# Altium footprint library 电容.PcbLib: 174 footprints (part 8 of 11)
Each footprint in its own frame and in the unit in brackets; x right, y up, seen from the top. Pads: shape width x height; smd on the part's side, far side on the other; paste and mask are expansions set on the pad; w line width, h text height; cw(c..) or ccw(c..) is an arc to the next point about the centre after c.
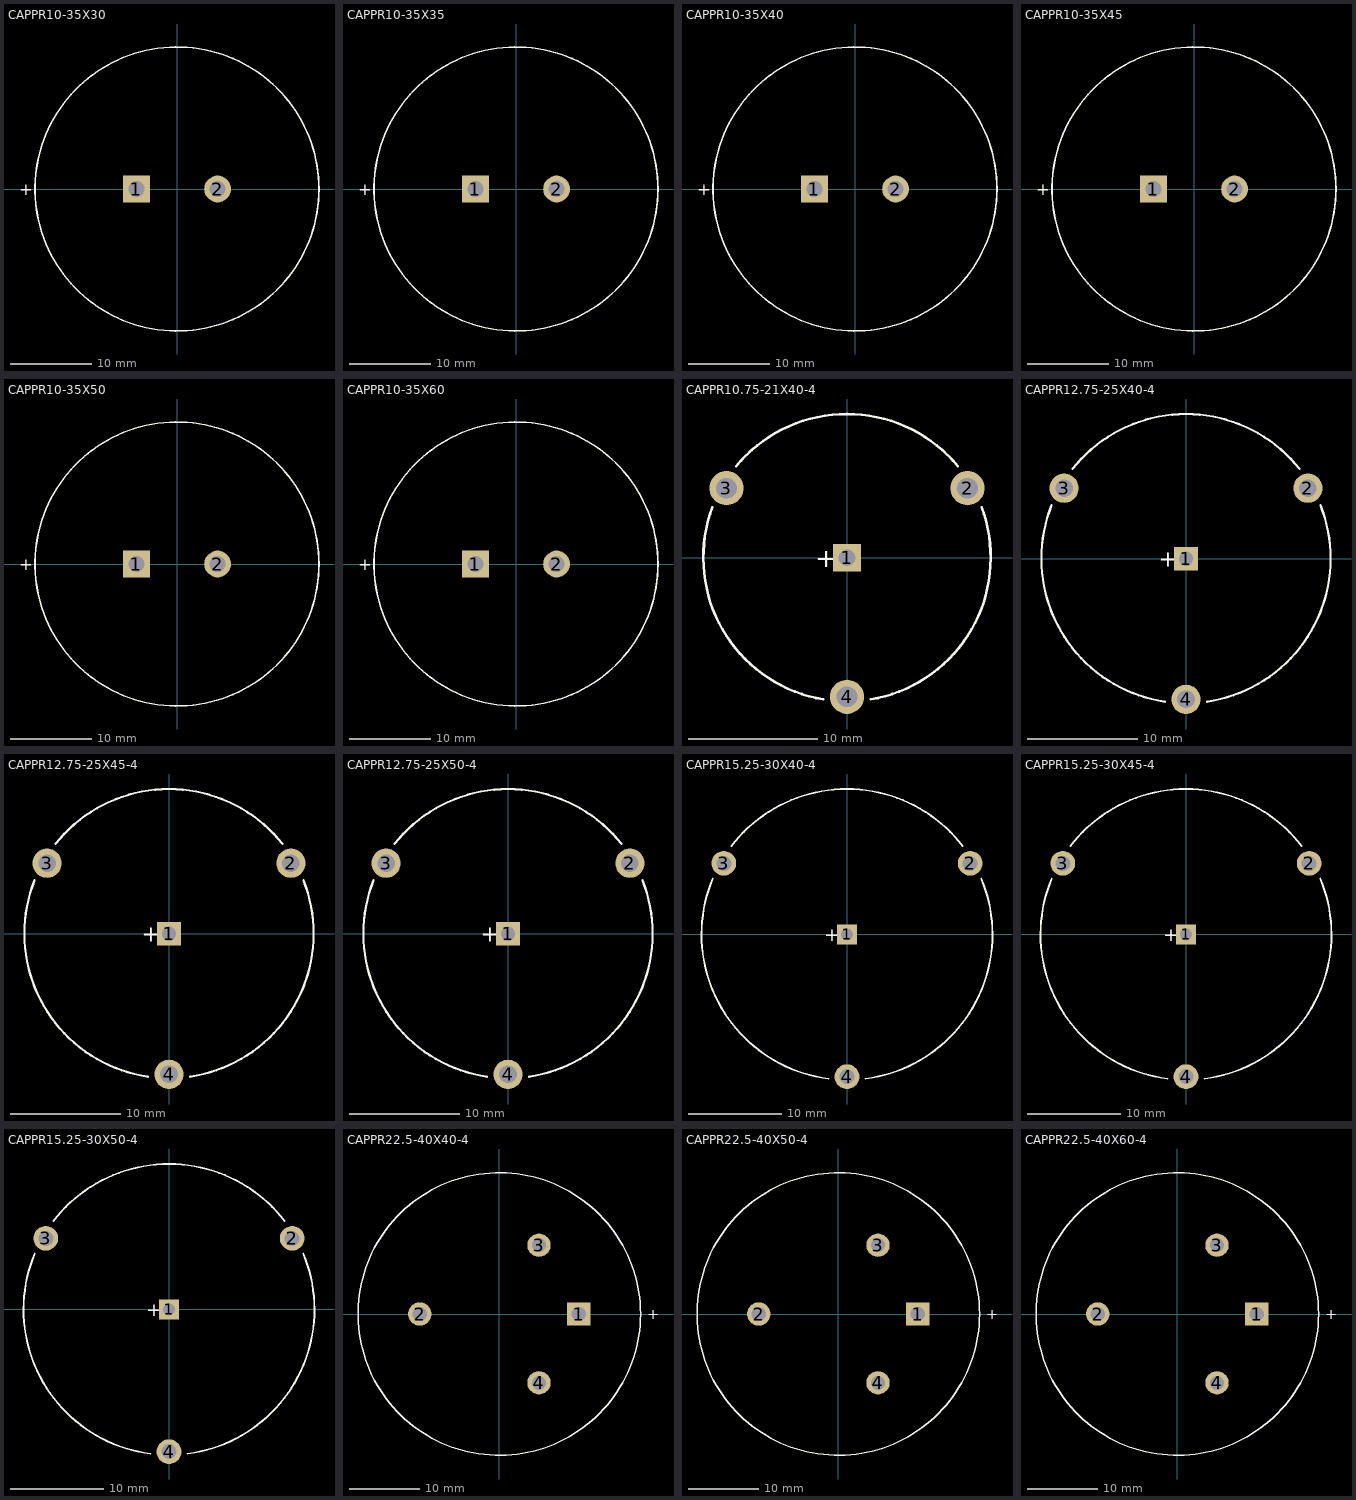
[diagram p7: the footprints below, top view; thin cyan lines are the x and y axes]

## CAPPR10-35X30 [mm]
pads (2):
  rect 3.3x3.3 hole 2: 1(-5,0)
  round 3.3 hole 2: 2(5,0)
Top Overlay:
  circle w0.2: c0,0 r17.5
  text "+" at -19.475,-0.75 h1.5
3D body: height 30, standoff 0.5, extent -17.499,-17.499 17.499,17.499

## CAPPR10-35X35 [mm]
pads (2):
  rect 3.3x3.3 hole 2: 1(-5,0)
  round 3.3 hole 2: 2(5,0)
Top Overlay:
  circle w0.2: c0,0 r17.5
  text "+" at -19.475,-0.75 h1.5
3D body: height 35, standoff 0.5, extent -17.499,-17.499 17.499,17.499

## CAPPR10-35X40 [mm]
pads (2):
  rect 3.3x3.3 hole 2: 1(-5,0)
  round 3.3 hole 2: 2(5,0)
Top Overlay:
  circle w0.2: c0,0 r17.5
  text "+" at -19.475,-0.75 h1.5

## CAPPR10-35X45 [mm]
pads (2):
  rect 3.3x3.3 hole 2: 1(-5,0)
  round 3.3 hole 2: 2(5,0)
Top Overlay:
  circle w0.2: c0,0 r17.5
  text "+" at -19.475,-0.75 h1.5
3D body: height 45, standoff 0.5, extent -17.499,-17.499 17.499,17.499

## CAPPR10-35X50 [mm]
pads (2):
  rect 3.3x3.3 hole 2: 1(-5,0)
  round 3.3 hole 2: 2(5,0)
Top Overlay:
  circle w0.2: c0,0 r17.5
  text "+" at -19.475,-0.75 h1.5
3D body: height 50, standoff 0.5, extent -17.499,-17.499 17.499,17.499

## CAPPR10-35X60 [mm]
pads (2):
  rect 3.3x3.3 hole 2: 1(-5,0)
  round 3.3 hole 2: 2(5,0)
Top Overlay:
  circle w0.2: c0,0 r17.5
  text "+" at -19.475,-0.75 h1.5
3D body: height 60, standoff 0.5, extent -17.499,-17.499 17.499,17.499

## CAPPR10.75-21X40-4 [mm]
pads (4):
  rect 2.15x2.15 hole 1.3: 1(0,0)
  round 2.65 hole 1.6: 2(9.31,5.375) 3(-9.31,5.375) 4(0,-10.75)
Top Overlay:
  lines w0.2: -10.398,3.883 ccw(c0,0) -1.836,-10.947 ; -8.562,7.064 cw(c0,0) 8.562,7.064 ; 1.836,-10.947 ccw(c0,0) 10.398,3.883
  text "+" at -2.45,-0.75 h1.5

## CAPPR12.75-25X40-4 [mm]
pads (4):
  rect 2.15x2.15 hole 1.3: 1(0,0)
  round 2.65 hole 1.6: 2(11.042,6.375) 3(-11.042,6.375) 4(0,-12.75)
Top Overlay:
  lines w0.2: -12.176,4.832 ccw(c0,0) -1.904,-12.961 ; -10.273,8.129 cw(c0,0) 10.273,8.129 ; 1.904,-12.961 ccw(c0,0) 12.176,4.832
  text "+" at -2.45,-0.75 h1.5

## CAPPR12.75-25X45-4 [mm]
pads (4):
  rect 2.15x2.15 hole 1.3: 1(0,0)
  round 2.65 hole 1.6: 2(11.042,6.375) 3(-11.042,6.375) 4(0,-12.75)
Top Overlay:
  lines w0.2: -12.176,4.832 ccw(c0,0) -1.904,-12.961 ; -10.273,8.129 cw(c0,0) 10.273,8.129 ; 1.904,-12.961 ccw(c0,0) 12.176,4.832
  text "+" at -2.45,-0.75 h1.5

## CAPPR12.75-25X50-4 [mm]
pads (4):
  rect 2.15x2.15 hole 1.3: 1(0,0)
  round 2.65 hole 1.6: 2(11.042,6.375) 3(-11.042,6.375) 4(0,-12.75)
Top Overlay:
  lines w0.2: -12.176,4.832 ccw(c0,0) -1.904,-12.961 ; -10.273,8.129 cw(c0,0) 10.273,8.129 ; 1.904,-12.961 ccw(c0,0) 12.176,4.832
  text "+" at -2.45,-0.75 h1.5

## CAPPR15.25-30X40-4 [mm]
pads (4):
  rect 2.15x2.15 hole 1.3: 1(0,0)
  round 2.65 hole 1.6: 2(13.207,7.625) 3(-13.207,7.625) 4(0,-15.25)
Top Overlay:
  lines w0.2: -14.394,6.014 ccw(c0,0) -1.989,-15.473 ; -12.405,9.459 cw(c0,0) 12.405,9.459 ; 1.989,-15.473 ccw(c0,0) 14.394,6.014
  text "+" at -2.45,-0.75 h1.5

## CAPPR15.25-30X45-4 [mm]
pads (4):
  rect 2.15x2.15 hole 1.3: 1(0,0)
  round 2.65 hole 1.6: 2(13.207,7.625) 3(-13.207,7.625) 4(0,-15.25)
Top Overlay:
  lines w0.2: -14.394,6.014 ccw(c0,0) -1.989,-15.473 ; -12.405,9.459 cw(c0,0) 12.405,9.459 ; 1.989,-15.473 ccw(c0,0) 14.394,6.014
  text "+" at -2.45,-0.75 h1.5

## CAPPR15.25-30X50-4 [mm]
pads (4):
  rect 2.15x2.15 hole 1.3: 1(0,0)
  round 2.65 hole 1.6: 2(13.207,7.625) 3(-13.207,7.625) 4(0,-15.25)
Top Overlay:
  lines w0.2: -14.394,6.014 ccw(c0,0) -1.989,-15.473 ; -12.405,9.459 cw(c0,0) 12.405,9.459 ; 1.989,-15.473 ccw(c0,0) 14.394,6.014
  text "+" at -2.45,-0.75 h1.5

## CAPPR22.5-40X40-4 [mm]
pads (4):
  rect 3.3x3.3 hole 2: 1(11.25,0)
  round 3.3 hole 2: 2(-11.25,0) 3(5.625,9.743) 4(5.625,-9.743)
Top Overlay:
  circle w0.2: c0,0 r20
  text "+" at 20.975,-0.75 h1.5
3D body: height 0, standoff 0, extent -19.999,-19.999 19.999,19.999

## CAPPR22.5-40X50-4 [mm]
pads (4):
  rect 3.3x3.3 hole 2: 1(11.25,0)
  round 3.3 hole 2: 2(-11.25,0) 3(5.625,9.743) 4(5.625,-9.743)
Top Overlay:
  circle w0.2: c0,0 r20
  text "+" at 20.975,-0.75 h1.5
3D body: height 50, standoff 0.5, extent -19.999,-19.999 19.999,19.999

## CAPPR22.5-40X60-4 [mm]
pads (4):
  rect 3.3x3.3 hole 2: 1(11.25,0)
  round 3.3 hole 2: 2(-11.25,0) 3(5.625,9.743) 4(5.625,-9.743)
Top Overlay:
  circle w0.2: c0,0 r20
  text "+" at 20.975,-0.75 h1.5
3D body: height 60, standoff 0.5, extent -19.999,-19.999 19.999,19.999